# Altium schematic symbol library PO_SS_Lib.SchLib: 43 symbols
Pins are listed as number, name and electrical type; pins without a type are passive.

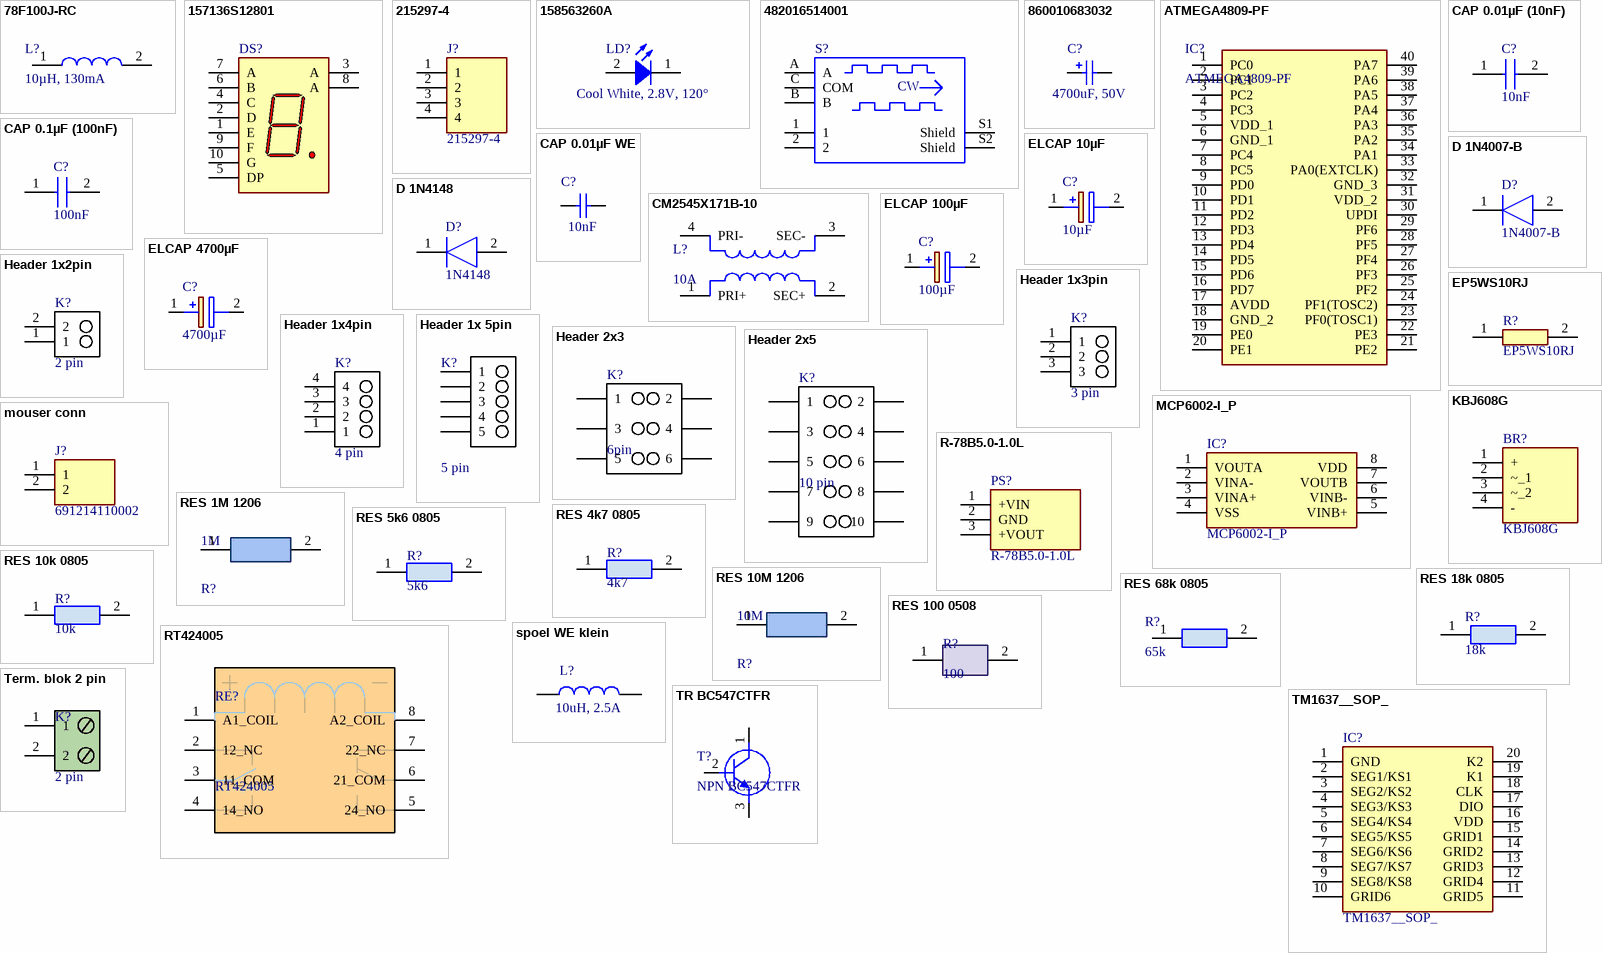
[diagram p0: symbols 78F100J-RC to TR BC547CTFR]

## 78F100J-RC
designator L?, comment 10µH, 130mA
smoorspoel 10µH, 130mA; Manufacturer_Name: Bourns; Manufacturer_Part_Number: 78F100J-RC; Datasheet Link: https://componentsearchengine.com//78F100J-RC.pdf; Mouser2 Part Number: 542-78F100-RC; Mouser2 Price/Stock: https://www.mouser.com/Search/Refine.aspx?Keyword=542-78F100-RC
footprint INDAD1827W51L711D279
pins: 1, 2

## 157136S12801
designator DS?
WL-T7DS 7 Segments Display THT Single Digit, Common Anode, 0.52" / 13.2mm, 38mcd, 2V, Super Red; Manufacturer Part Number: 157136S12801; Manufacturer: Wurth Elektronik; Circuitry: Common Anode; Width: 12.4mm; Mounting Technology: THT; Display Height: 0.52" / 13.2mm; Operating Temperature max.: 85C; Packaging: Tube; Luminous Intensity: 38mcd; Length: 17.5mm; ComponentLink2Description: Datasheet; Forward Voltage: 2V; ComponentLink1Description: Manufacturer Link; Height: 7mm; ComponentLink1URL: http://www.we-online.de; Emitting Color: Super Red; ComponentLink2URL: https://www.we-online.com/catalog/datasheet/157136S12801.pdf; Operating Temperature min.: -40C
footprint WL-T7DS_L17.5W12.4H7
pins: 1 E "Cathode", 2 D "Cathode", 3 A "Anode", 4 C "Cathode", 5 DP "Cathode", 6 B "Cathode", 7 A "Cathode", 8 A "Anode", 9 F "Cathode", 10 G "Cathode"

## 215297-4
designator J?
niet gebruikt, wel footprint voor 1x4pin; Manufacturer_Name: TE Connectivity; Datasheet Link: https://componentsearchengine.com//215297-4.pdf; Height: 7mm; Mouser2 Part Number: 571-215297-4; Mouser2 Price/Stock: https://www.mouser.com/Search/Refine.aspx?Keyword=571-215297-4; Manufacturer_Part_Number: 215297-4
footprint SHDR4W78P0X254_1X4_1026X252X700P
pins: 1, 2, 3, 4

## 158563260A
designator LD?, comment Cool White, 2.8V, 120°
WL-SWTP SMT White Top view PLCC, size 5630, Cool White, 2.8V, 120°; Manufacturer: Wurth Elektronik; Manufacturer Part Number: 158563260A; Color Rendering Index: 85; Correlated Color Temperature: 6000K; Luminous Flux: 35lm; Chip Technology: InGaN; Viewing Angle: 120°; ComponentLink1URL: http://www.we-online.de; Size: 5630; Emitting Color: Cool White; Forward Voltage: 2.8V; ComponentLink2URL: https://www.we-online.com/catalog/datasheet/158563260A.pdf; ComponentLink1Description: Manufacturer Link; ComponentLink2Description: Datasheet; Operating Temperature max.: 85C; Mounting Technology: SMT; Packaging: Tape and Reel; Height: 0.6mm; Length: 5.6mm; Operating Temperature min.: -40C; Width: 3mm
footprint WL-SWTP_5630_L5.6W3H0.6 (SMD White Top view PLCC, body 5.6x3mm)
pins: 1 K, 2 A

## 482016514001
designator S?
WS-ENTV Mechanical Incremental Encoder Switch, Metal Shaft with bushing, 15Pulse/360deg, 30positions, 10mA; Manufacturer Part Number: 482016514001; Manufacturer: Wurth Elektronik; Electrical Life Switch: 20000Cycles; Electrical Life Encoder: 15000Cycles; Insulation Resistance: 100MOhm; Operation Force: 600g; ComponentLink1Description: Manufacturer; ComponentLink1URL: http://www.we-online.de; ComponentLink2Description: Datasheet; ComponentLink2URL: https://www.we-online.com/catalog/datasheet/482016514001.pdf; Mounting Technology: THT; Published Date: May 2021; Detent: 30positions; Operating Temperature: -40 to +85degC; Packaging: Tray; Resolution: 15Pulse/360deg; Rated Current: 10mA; Size: L13.75W11.7H26.6
footprint 4820xx514001 (20 pulse with 20 Detent, half  cut shaft with Bushing, THT vertical  Encoder, with switch Function)
pins: 1, 2, A "Channel A", B "Channel B", C COM "Common", S1 Shield, S2 Shield
text: CW

## 860010683032
designator C?, comment 4700uF, 50V
WCAP-ATG8 Aluminum Electrolytic Capacitor, Radial, THT, D22xH41, 4700uF, 50V; Manufacturer Part Number: 860010683032; Manufacturer: Wurth Elektronik; Ripple Current: 3355mA; Rated Voltage: 50VDC; Technical Reference: ATBN410472M050DSPS2B000; Leakage Current: 2350uA; Endurance: 2000h; Dissipation Factor: 10%; Capacitance Tolerance: +/-20%; ComponentLink2Description: Datasheet; Published Date: October 2020; Packaging: Ammo Pack; Operating Temperature: -40 to +85degC; Mounting Technology: THT; Height: 41mm; Diameter: 22mm; ComponentLink2URL: https://www.we-online.com/catalog/datasheet/860010683032.pdf; ComponentLink1URL: http://www.we-online.de; ComponentLink1Description: Manufacturer; Capacitance: 4700uF
footprint WCAP-ATG8_D22H41 (Aluminum Electrolytic Capacitors, 22x41mm)
pins: 1 P, 2 N

## ATMEGA4809-PF
designator IC?
Integrated Circuit; Manufacturer_Name: Microchip; Datasheet Link: https://componentsearchengine.com//ATMEGA4809-PF.pdf; Height: 6.35mm; Mouser2 Part Number: 556-ATMEGA4809-PF; Mouser2 Price/Stock: https://www.mouser.com/Search/Refine.aspx?Keyword=556-ATMEGA4809-PF; Manufacturer_Part_Number: ATMEGA4809-PF
footprint ATMEGA4809-PF
pins: 1 PC0, 2 PC1, 3 PC2, 4 PC3, 5 VDD_1, 6 GND_1, 7 PC4, 8 PC5, 9 PD0, 10 PD1, 11 PD2, 12 PD3, 13 PD4, 14 PD5, 15 PD6, 16 PD7, 17 AVDD, 18 GND_2, 19 PE0, 20 PE1, 21 PE2, 22 PE3, 23 PF0(TOSC1), 24 PF1(TOSC2), 25 PF2, 26 PF3, 27 PF4, 28 PF5, 29 PF6, 30 UPDI, 31 VDD_2, 32 GND_3, 33 PA0(EXTCLK), 34 PA1, 35 PA2, 36 PA3, 37 PA4, 38 PA5, 39 PA6, 40 PA7

## CAP 0.01µF (10nF)
designator C?, comment 10nF
Capacitor C0805C103K1HACAUTO; Manufacturer_Name: Kemet; Datasheet Link: https://componentsearchengine.com//C0805C103K1HACAUTO.pdf; Height: 1mm; Mouser2 Part Number: 80-C0805C103K1HAUTO; Mouser2 Price/Stock: https://www.mouser.com/Search/Refine.aspx?Keyword=80-C0805C103K1HAUTO; Manufacturer_Part_Number: C0805C103K1HACAUTO
footprint CAPC2012X100N
pins: 1, 2

## CAP 0.1µF (100nF)
designator C?, comment 100nF
Capacitor C0805C104K8RACAUTO; Manufacturer_Name: Kemet; Datasheet Link: https://ad.componentsearchengine.com/Datasheets/2/C0805C104K8RACAUTO.pdf; Height: 0.88mm; Manufacturer_Part_Number: C0805C104K8RACAUTO
footprint WCAP-CSGP_0805_L2W1.25H0.8_Reflow (Ceramic Capacitors, body 2x1.25mm)
pins: 1, 2

## CAP 0.01µF WE
designator C?, comment 10nF
WCAP-CSGP Multilayer Ceramic Chip Capacitor, General Purpose, size 0805, X7R, 10nF, 50V  885012207092; Manufacturer: Wurth Elektronik; Capacitance Tolerance: +/-10%; Dissipation Factor: 2.5%; Isolation Resistance: 10GOhm; Technical Reference: X7R0805103K050DFCT10000; Capacitance: 10nF; Ceramic Type: X7R; ComponentLink1Description: Manufacturer Link; ComponentLink1URL: http://www.we-online.de; ComponentLink2Description: Datasheet; ComponentLink2URL: https://www.we-online.com/catalog/datasheet/885012207092.pdf; Height: 0.8mm; Length: 2mm; Manufacturer Part Number: 885012207092; Mounting Technology: SMT; Operating Temperature max.: 125C; Operating Temperature min.: -55C; Packaging: Tape and Reel; Rated Voltage: 50V; Size: 0805; Width: 1.25mm
footprint WCAP-CSGP_0805_L2W1.25H0.8_Reflow (Ceramic Capacitors, body 2x1.25mm)
pins: 1, 2

## CM2545X171B-10
designator L?, comment 10A
common mode smoorspoel 10A; Manufacturer_Name: Laird Technologies; Manufacturer_Part_Number: CM2545X171B-10; Datasheet Link: https://datasheet.datasheetarchive.com/originals/dk/DKDS-7/122753.pdf; Height: 9.5mm
footprint CM2545X171B10
pins: 1 PRI+, 2 SEC+, 3 SEC-, 4 PRI-

## D 1N4007-B
designator D?, comment 1N4007-B
Diode 1N4007-B 1000V, 1A; Manufacturer_Name: Rectron; Datasheet Link: https://www.arrow.com/en/products/1n4007-b/rectron; Manufacturer_Part_Number: 1N4007-B
footprint DIOAD1410W90L470D235
pins: 1 K, 2 A

## D 1N4148
designator D?, comment 1N4148
Diode 1N4148 100V, 200mA; Manufacturer_Name: Nexperia; Datasheet Link: https://datasheet.datasheetarchive.com/originals/distributors/Datasheets-112/DSAP0040891.pdf; Manufacturer_Part_Number: 1N4148
footprint DIOAD1165W56L425D185
pins: 1 K, 2 A

## ELCAP 10µF
designator C?, comment 10µF
Capacitor Polarised Wurth Elektronik 860240672002 10µF; Datasheet Link: https://katalog.we-online.de/pbs/datasheet/860240672002.pdf; Height: 12.5mm; Manufacturer_Name: Wurth Elektronik; Manufacturer_Part_Number: 860240672002
footprint WCAP-AT1H_D5H11 (Aluminium Electrolytic Radial THD Capacitors, 5x11mm)
pins: 1 +, 2 -

## ELCAP 100µF
designator C?, comment 100µF
Capacitor Polarised 100µF Wurth 860241181006; Manufacturer_Name: Wurth Elektronik; Datasheet Link: https://www.we-online.de/katalog/datasheet/860241181006.pdf; Height: 27mm; Manufacturer_Part_Number: 860241181006
footprint WCAP-AT1H_D10H16 (Aluminium Electrolytic Radial THD Capacitors, 10x16mm)
pins: 1 +, 2 -

## ELCAP 4700µF
designator C?, comment 4700µF
Capacitor Polarised ESK478M050AQ3AA; Manufacturer_Name: Kemet; Datasheet Link: https://componentsearchengine.com//ESK478M050AQ3AA.pdf; Height: 37mm; Mouser2 Part Number: 80-ESK478M050AQ3AA; Mouser2 Price/Stock: https://www.mouser.com/Search/Refine.aspx?Keyword=80-ESK478M050AQ3AA; Manufacturer_Part_Number: ESK478M050AQ3AA
footprint WCAP-ATG8_D22H41 (Aluminum Electrolytic Capacitors, 22x41mm)
pins: 1 +, 2 -

## EP5WS10RJ
designator R?
Resistor LED; Manufacturer_Name: TE Connectivity; Datasheet Link: https://www.te.com/commerce/DocumentDelivery/DDEController?Action=showdoc&DocId=Data+Sheet%7F9-1773463-6%7FA%7Fpdf%7FEnglish%7FENG_DS_9-1773463-6_A.pdf%7F2176083-1; Manufacturer_Part_Number: EP5WS10RJ
footprint Weerstand LEDS
pins: 1, 2

## Header 1x2pin
designator K?, comment 2 pin
Connector 2 pin 212520-1002; Manufacturer_Name: Molex; Datasheet Link: https://www.molex.com/pdm_docs/sd/2125201002_sd.pdf; Height: 13.6mm; Manufacturer_Part_Number: 212520-1002
footprint 691214110002
pins: 1, 2

## Header 1x3pin
designator K?, comment 3 pin
Connector 69121431003 3 pin; Manufacturer_Name: Wurth Elektronik; Manufacturer_Part_Number: 61900311121; Datasheet Link: https://katalog.we-online.de/em/datasheet/61900311121.pdf; Height: 11.75mm
footprint 691214310003 (3,81mm - Horizontal wire entry - Rising cage clamp - 03p)
pins: 1, 2, 3

## Header 1x4pin
designator K?, comment 4 pin
Connector 216571-3004 1x4 pin; Manufacturer_Name: Molex; Datasheet Link: https://www.molex.com/pdm_docs/sd/2165711002_sd.pdf; Height: 9.91mm; Manufacturer_Part_Number: 216571-3004
footprint SHDR4W78P0X254_1X4_1026X252X700P
pins: 1, 2, 3, 4

## Header 1x 5pin
designator K?, comment 5 pin
Header, 5-Pin; LatestRevisionDate: 17-Jul-2002; LatestRevisionNote: Re-released for DXP Platform.; Publisher: Altium Limited
footprint 215297-5_TYC
pins: 1, 2, 3, 4, 5

## Header 2x3
designator K?, comment 6pin
Header, 3-Pin, Dual row; LatestRevisionDate: 17-Jul-2002; LatestRevisionNote: Re-released for DXP Platform.; Publisher: Altium Limited
footprint 215307-3_TYC
pins: 1, 2, 3, 4, 5, 6

## Header 2x5
designator K?, comment 10 pin
Header, 5-Pin, Dual row; LatestRevisionDate: 17-Jul-2002; LatestRevisionNote: Re-released for DXP Platform.; Publisher: Altium Limited
footprint 215307-5_TYC
pins: 1, 2, 3, 4, 5, 6, 7, 8, 9, 10

## KBJ608G
designator BR?
Bridge Rectifier; Manufacturer_Name: Diodes Inc.; Datasheet Link: https://componentsearchengine.com//KBJ608G.pdf; Height: 4.8mm; Mouser2 Part Number: 621-KBJ608G; Mouser2 Price/Stock: https://www.mouser.com/Search/Refine.aspx?Keyword=621-KBJ608G; Manufacturer_Part_Number: KBJ608G
footprint TO750P480X2500X1900-4P
pins: 1 +, 2 ~_1, 3 ~_2, 4 -

## MCP6002-I_P
designator IC?
Integrated Circuit Dual OPAMP MCP6002-I/P; Manufacturer_Name: Microchip; Datasheet Link: https://componentsearchengine.com//MCP6002-I_P.pdf; Height: 5.334mm; Mouser2 Part Number: 579-MCP6002-I/P; Mouser2 Price/Stock: https://www.mouser.com/Search/Refine.aspx?Keyword=579-MCP6002-I%2FP; Manufacturer_Part_Number: MCP6002-I/P
footprint DIP781W56P254L950H533Q8N
pins: 1 VOUTA, 2 VINA-, 3 VINA+, 4 VSS, 5 VINB+, 6 VINB-, 7 VOUTB, 8 VDD

## mouser conn
designator J?, comment 691214110002
niet gebruikt, wel footprint; Manufacturer_Name: Wurth Elektronik; Height: 8.7mm; Manufacturer_Part_Number: 691214110002
footprint 691214110002
pins: 1, 2

## R-78B5.0-1.0L
designator PS?
Power Supply DC/DC converter 6.5-34Vin 5Vout; Manufacturer_Name: RECOM Power; Datasheet Link: https://componentsearchengine.com//R-78B5.0-1.0L.pdf; Height: 9mm; Mouser2 Part Number: 919-R-78B5.0-1.0L; Mouser2 Price/Stock: https://www.mouser.com/Search/Refine.aspx?Keyword=919-R-78B5.0-1.0L; Manufacturer_Part_Number: R-78B5.0-1.0L
footprint R78B1210L
pins: 1 +VIN, 2 GND, 3 +VOUT

## RES 1M 1206
designator R?, comment 1M
Res Thin Film 1206 1M0Ω 0.1% 0.25W 15ppm/°C Molded SMD; Manufacturer: TE Connectivity; Manufacturer Part Number: RP73D2B1M0BTDF; Voltage Rating: 200V; Temperature: -55°C to 155°C; Device Class L2: Resistors; Resistance: 1M0Ω; octopart_url: https://octopart.com/rp73d2b1m0btdf-te+connectivity-22741454; Power Rating: 0.25W; Temperature Range High: 155°C; ComponentLink2Description: Datasheet; Category: Res; Octopart: https://octopart.com/rp73d2b1m0btdf-te+connectivity-22741454; ComponentLink2URL: https://www.te.com/commerce/DocumentDelivery/DDEController?Action=showdoc&DocId=Data+Sheet%7F1773272%7FL%7Fpdf%7FEnglish%7FENG_DS_1773272_L.pdf%7F8-1879255-6; Package: RP732B; packaging: 1000 Reel; Ipc Land Pattern Name: RESC305155X55; Tolerance: 0.1%; Device Class L1: Passive Components; Series: RP73; Height: 0.65mm; Lead Free: Yes; Value: 1M0Ω; Device Class L3: Chip SMD Resistors; Temperature Coefficient: 15ppm/°C; Automotive: No; Composition: Thin Film; Temperature Range Low: -55°C; RoHS: TRUE
footprint RESC3115X65N
pins: 1, 2

## RES 4k7 0805
designator R?, comment 4k7
4k7 SMD 0805  ESR10EZPJ472; Manufacturer_Name: ROHM Semiconductor; Datasheet Link: https://componentsearchengine.com/Datasheets/2/ESR10EZPJ472.pdf; Height: 0.65mm; Manufacturer_Part_Number: ESR10EZPJ472
footprint CAPC2012X65N
footprint Model Name (Model Description)
pins: 1, 2

## RES 5k6 0805
designator R?, comment 5k6
5k6 SMD 0805  CRCW08055K60JNEA; Manufacturer_Name: Vishay; Datasheet Link: http://www.vishay.com/docs/20035/dcrcwe3.pdf; Height: 0.5mm; Manufacturer_Part_Number: CRCW08055K60JNEA
footprint RESC2012X50N
pins: 1, 2

## RES 10k 0805
designator R?, comment 10k
10k SMD 0805  CR0805-FX-1002ELF; Manufacturer_Name: Bourns; Datasheet Link: https://componentsearchengine.com//CR0805-FX-1002ELF.pdf; Height: 0.6mm; Mouser2 Part Number: 652-CR0805FX-1002ELF; Mouser2 Price/Stock: https://www.mouser.com/Search/Refine.aspx?Keyword=652-CR0805FX-1002ELF; Manufacturer_Part_Number: CR0805-FX-1002ELF
footprint RESC2012X60N
pins: 1, 2

## RES 10M 1206
designator R?, comment 10M
Res Thin Film 1206 1M0Ω 0.1% 0.25W 15ppm/°C Molded SMD  1206 10M 5% 0.25W TCR200; Manufacturer: TE Connectivity; Manufacturer Part Number: RP73D2B1M0BTDF; Voltage Rating: 200V; Temperature: -55°C to 155°C; Device Class L2: Resistors; Resistance: 1M0Ω; octopart_url: https://octopart.com/rp73d2b1m0btdf-te+connectivity-22741454; Power Rating: 0.25W; Temperature Range High: 155°C; ComponentLink2Description: Datasheet; Category: Res; Octopart: https://octopart.com/rp73d2b1m0btdf-te+connectivity-22741454; ComponentLink2URL: https://www.te.com/commerce/DocumentDelivery/DDEController?Action=showdoc&DocId=Data+Sheet%7F1773272%7FL%7Fpdf%7FEnglish%7FENG_DS_1773272_L.pdf%7F8-1879255-6; Package: RP732B; packaging: 1000 Reel; Ipc Land Pattern Name: RESC305155X55; Tolerance: 0.1%; Device Class L1: Passive Components; Series: RP73; Height: 0.65mm; Lead Free: Yes; Value: 1M0Ω; Device Class L3: Chip SMD Resistors; Temperature Coefficient: 15ppm/°C; Automotive: No; Composition: Thin Film; Temperature Range Low: -55°C; RoHS: TRUE
footprint RESC3115X65N
pins: 1, 2

## RES 18k 0805
designator R?, comment 18k
18kΩ ±0.5% 0.1W 1/10W Chip Resistor 0805 (2012 Metric) Thin Film  RR1220P-183-D; Voltage Rating: 100V; Temperature Coefficient: 25ppm/°C; Power Rating: 100mW; Resistance: 18kR; Length: 2mm; Lead Free: Lead Free; Height: 0.4mm; Depth: 1.25mm; Packaging: Tape and Reel; Min Operating Temperature: -55°C; Case Code (Metric): 2012; Termination: SMD/SMT; Voltage Rating (DC): 100V; Case/Package: 0805; Max Operating Temperature: 125°C; RoHS Compliant: Yes; Mount: Surface Mount; Case Code (Imperial): 0805; Technology: THIN FILM; Tolerance: 0.5%; Number of Terminations: 2; Max Power Dissipation: 100mW; Series: RR; Size Code: 0805
footprint RESC2012X60N
pins: 1, 2

## RES 68k 0805
designator R?, comment 65k
Res Thin Film 0805 68K Ohm 0.1% 1/8W ±25ppm/°C Molded SMD SMD Punched Carrier T/R; Manufacturer: Panasonic; Manufacturer Part Number: ERA-6AEB683V; Resistance: 68kR; Power Rating: 125mW; Voltage Rating: 100V; Supplier 1: RSComponents; RoHS: Yes; Category: Chip SMD Resistors; Stock 1: 790; Pricing 1: 5=0,49000, 50=0,45500, 100=0,42500, 250=0,39500, 500=0,36300 (USD); Mount: Surface Mount; Case/Package: 0805; Number of Pins: 2; Contact Plating: Tin; Case Code (Metric): 2012; Case Code (Imperial): 0805; Min Operating Temperature: -55°C; Max Operating Temperature: 155°C; Tolerance: 0.1%; Resistor Type: Thin Film; Temperature Coefficient: 25ppm/°C; Packaging: Tape and Reel; Package Quantity: 5000; Number of Terminations: 2; Termination: SMD/SMT; Max Power Dissipation: 125mW; Voltage Rating (DC): 100V; Series: ERA-6A; Resistance Tolerance: 0.1%; Technology: METAL FILM; Construction: Rectangular; Length: 2mm; Width: 1.25mm; Height: 0.5mm; Depth: 1.25mm; Radiation Hardening: No; REACH SVHC: No SVHC; Military Standard: Not; Lead Free: Lead Free; ComponentLink1URL: https://datasheet.ciiva.com/11812/0900766b80beefcc-11812834.pdf?src-supplier=RSComponents; ComponentLink1Description: https://datasheet.ciiva.com/11812/0900766b80beefcc-11812834.pdf?src-supplier=RSComponents; ComponentLink2URL: https://datasheet.ciiva.com/26335/453596-da-01-en-widerstand-0805-era-26335721.pdf?src-supplier=Conrad; ComponentLink2Description: https://datasheet.ciiva.com/26335/453596-da-01-en-widerstand-0805-era-26335721.pdf?src-supplier=Conrad; ComponentLink3URL: https://datasheet.ciiva.com/7886/485442-7886653.pdf?src-supplier=Element14; ComponentLink3Description: https://datasheet.ciiva.com/7886/485442-7886653.pdf?src-supplier=Element14; ComponentLink4URL: https://datasheet.ciiva.com/48530/era-eng-tds-48530013.pdf?src-supplier=Distrelec; ComponentLink4Description: https://datasheet.ciiva.com/48530/era-eng-tds-48530013.pdf?src-supplier=Distrelec; ComponentLink5URL: https://datasheet.ciiva.com/48425/era-eng-tds-48425626.pdf?src-supplier=Distrelec; ComponentLink5Description: https://datasheet.ciiva.com/48425/era-eng-tds-48425626.pdf?src-supplier=Distrelec; ComponentLink6URL: https://datasheet.ciiva.com/6138/485442-6138605.pdf?src-supplier=Farnell; ComponentLink6Description: https://datasheet.ciiva.com/6138/485442-6138605.pdf?src-supplier=Farnell; ComponentLink7URL: https://datasheet.ciiva.com/7886/485442-7886654.pdf?src-supplier=Element14; ComponentLink7Description: https://datasheet.ciiva.com/7886/485442-7886654.pdf?src-supplier=Element14; ComponentLink8URL: https://datasheet.ciiva.com/9188/aoa0000ce26-9188075.pdf?src-supplier=Avnet; ComponentLink8Description: https://datasheet.ciiva.com/9188/aoa0000ce26-9188075.pdf?src-supplier=Avnet; ComponentLink9URL: https://datasheet.ciiva.com/30076/54aoa0000ce26-30076872.pdf?src-supplier=Onlinecomponents.com; ComponentLink9Description: https://datasheet.ciiva.com/30076/54aoa0000ce26-30076872.pdf?src-supplier=Onlinecomponents.com; ComponentLink10URL: https://datasheet.ciiva.com/17208/aoa0000ce26-17208888.pdf?src-supplier=Avnet+Europe; ComponentLink10Description: https://datasheet.ciiva.com/17208/aoa0000ce26-17208888.pdf?src-supplier=Avnet+Europe
footprint RESC2012X60N
pins: 1, 2

## RES 100 0508
designator R?, comment 100
100 Ohm SMD 0508  LTR10EZPJ101; Manufacturer_Name: ROHM Semiconductor; Datasheet Link: https://componentsearchengine.com//LTR10EZPJ101.pdf; Height: 0.65mm; Mouser2 Part Number: 755-LTR10EZPJ101; Mouser2 Price/Stock: https://www.mouser.com/Search/Refine.aspx?Keyword=755-LTR10EZPJ101; Manufacturer_Part_Number: LTR10EZPJ101
footprint RESC1220X65N
pins: 1, 2

## RT424005
designator RE?
Relay or Contactor; Manufacturer_Name: TE Connectivity; Datasheet Link: https://componentsearchengine.com//RT424005.pdf; Mouser2 Part Number: 655-RT424005; Mouser2 Price/Stock: https://www.mouser.com/Search/Refine.aspx?Keyword=655-RT424005; Manufacturer_Part_Number: RT424005
footprint RT42
pins: 1 A1_COIL, 2 12_NC, 3 11_COM, 4 14_NO, 5 24_NO, 6 21_COM, 7 22_NC, 8 A2_COIL

## spoel WE klein
designator L?, comment 10uH, 2.5A
WE-SD THT Rod Core Choke, 10uH, 2.5A  744711003; Manufacturer: Wurth Elektronik; DC Resistance: 33mOhm; ComponentLink1Description: Manufacturer; ComponentLink1URL: http://www.we-online.de; ComponentLink2Description: Datasheet; ComponentLink2URL: https://www.we-online.com/catalog/datasheet/744711003.pdf; Operating Temperature: -40 to +150degC; Packaging: Carton; Published Date: May 2021; Inductance: 10uH; Manufacturer Part Number: 744711003; Mounting Technology: THT; Rated Current: 2.5A
footprint 744711003
pins: 1, 2

## Term. blok 2 pin
designator K?, comment 2 pin
Connector Term. blok. 1729128 2 pin; Manufacturer_Name: Phoenix Contact; Datasheet Link: http://www.phoenixcontact.com/de/produkte/1729128/pdf; Height: 10.15mm; Manufacturer_Part_Number: 1729128
footprint 1729128
pins: 1, 2

## TM1637__SOP_
designator IC?
Integrated Circuit; Manufacturer_Name: TITAN MICRO ELECTRONICS; Manufacturer_Part_Number: TM1637 (SOP); Datasheet Link: https://www.mcielectronics.cl/website_MCI/static/documents/Datasheet_TM1637.pdf; Height: 2.8mm
footprint SOIC127P1045X280-20N
pins: 1 GND, 2 SEG1/KS1, 3 SEG2/KS2, 4 SEG3/KS3, 5 SEG4/KS4, 6 SEG5/KS5, 7 SEG6/KS6, 8 SEG7/KS7, 9 SEG8/KS8, 10 GRID6, 11 GRID5, 12 GRID4, 13 GRID3, 14 GRID2, 15 GRID1, 16 VDD, 17 DIO, 18 CLK, 19 K1, 20 K2

## TR BC547CTFR
designator T?, comment NPN BC547CTFR
Transistor BC547CTFR NPN; Mfr_Name: onsemi; Type: DEV; Copyright: Copyright (C) 2022 Ultra Librarian. All rights reserved.; Manufacturer_Part_Number: BC547CTFR; RefDes: RefDes
footprint BC33740TA
pins: 1 C, 2 B, 3 E

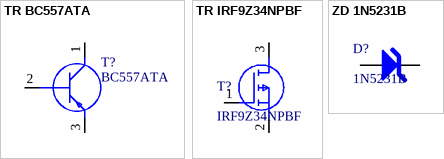
[diagram p1: symbols TR BC557ATA to ZD 1N5231B]

## TR BC557ATA
designator T?, comment BC557ATA
Transistor BJT BC557ATA PNP; Manufacturer_Name: ON Semiconductor; Datasheet Link: https://componentsearchengine.com//BC557ATA.pdf; Mouser2 Part Number: 512-BC557ATA; Mouser2 Price/Stock: https://www.mouser.com/Search/Refine.aspx?Keyword=512-BC557ATA; Manufacturer_Part_Number: BC557ATA
footprint BC33740TA
pins: 1 C, 2 B, 3 E

## TR IRF9Z34NPBF
designator T?, comment IRF9Z34NPBF
MOSFET (P-Channel); Manufacturer_Name: Infineon; Datasheet Link: https://componentsearchengine.com//IRF9Z34NPBF.pdf; Height: 4.69mm; Mouser2 Part Number: 942-IRF9Z34NPBF; Mouser2 Price/Stock: https://www.mouser.com/Search/Refine.aspx?Keyword=942-IRF9Z34NPBF; Manufacturer_Part_Number: IRF9Z34NPBF
footprint TO254P469X1042X1967-3P
pins: 1 G, 2 S, 3 D

## ZD 1N5231B
designator D?, comment 1N5231B
Zenerdiode 1N5231B 5.1V 500mW; Mfr_Name: onsemi; Type: DEV; Copyright: Copyright (C) 2022 Ultra Librarian. All rights reserved.; Manufacturer_Part_Number: 1N5231B; RefDes: RefDes
footprint DIOAD1165W56L425D185
pins: 1, 2